# EAGLE library part TEXAS_INSTRUMENTS-BUCK_CONVERTER-TPS54334DRCR (library Module_Regulators)
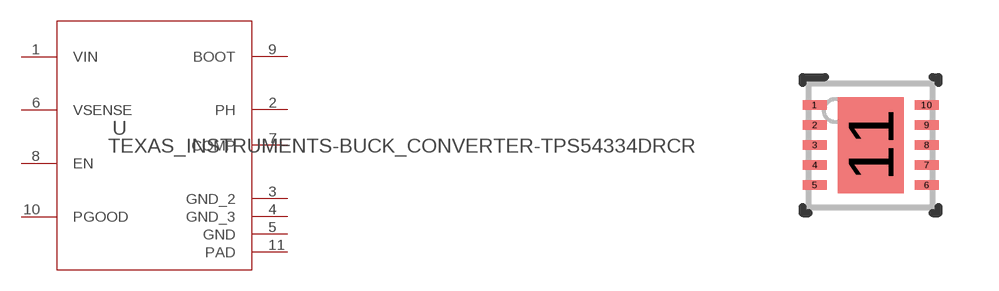
[diagram p8: symbol with the pads of TEXAS_INSTRUMENTS-BUCK_CONVERTER-TPS54334DRCR; footprint TEXAS_INSTRUMENTS-BUCK_CONVERTER-TPS54334DRCR]

Designator prefix U

## TEXAS_INSTRUMENTS-BUCK_CONVERTER-TPS54334DRCR (ALTERNATEPARTNUMBER: TPS54334DRCT; APPLICATION_BUILDNUMBER: *; COMPTYPE: IC; MANUFACTURER: Texas Instruments; MOUNTTYPE: SMT; PACKAGEREFERENCE: DRC0010J; PARTNUMBER: TPS54334DRCR; PIN_COUNT: 11; REFDES: RefDes; ROHS: Y; TYPE: TYPE; VALUE: Value)  [TEXAS_INSTRUMENTS-BUCK_CONVERTER-TPS54334DRCR]
1  VIN  pwr
2  PH  pwr
3  GND_2  pwr
4  GND_3  pwr
5  GND  pwr
6  VSENSE  in
7  COMP
8  EN  in
9  BOOT  pwr
10  PGOOD  oc
11  PAD  pwr

## Footprint TEXAS_INSTRUMENTS-BUCK_CONVERTER-TPS54334DRCR (pad centres in mm)
smd 0.6 x 0.24: 1 -1.4,1; 2 -1.4,0.5; 3 -1.4,0; 4 -1.4,-0.5; 5 -1.4,-1; 6 1.4,-1; 7 1.4,-0.5; 8 1.4,0; 9 1.4,0.5; 10 1.4,1
smd 1.65 x 2.4: 11 0,0